# Altium footprint library LC-TO-263-5.PcbLib: 2 footprints
Each footprint in its own frame and in the unit in brackets; x right, y up, seen from the top. Pads: shape width x height; smd on the part's side, far side on the other; paste and mask are expansions set on the pad; w line width, h text height; cw(c..) or ccw(c..) is an arc to the next point about the centre after c.
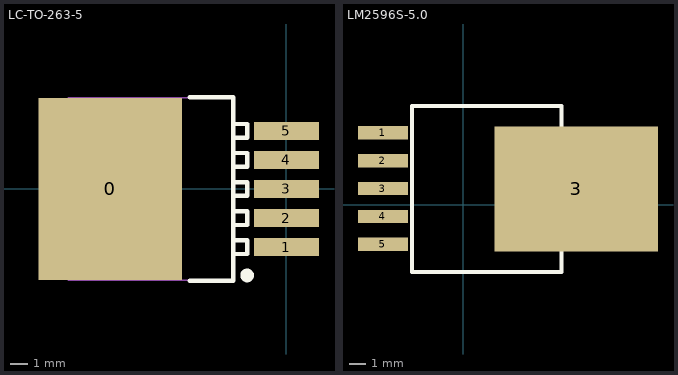
[diagram p0: the footprints below, top view; thin cyan lines are the x and y axes]

## LC-TO-263-5 [mm]
pads (6):
  rect 8.4x10.65 smd: 0(-10.3,0)
  rect 3.8x1.05 smd: 1(0,-3.4) 2(0,-1.7) 3(0,0) 4(0,1.7) 5(0,3.4)
Top Overlay:
  circle w0.4: c-2.3,-5.05 r0.2
  lines w0.254: -5.65,-5.35 -3.1,-5.35 -3.1,5.35 -5.65,5.35 ; -3.1,-3 -2.3,-3 -2.3,-3.8 -3,-3.8 ; -3.1,-1.3 -2.3,-1.3 -2.3,-2.1 -3,-2.1 ; -3.1,0.4 -2.3,0.4 -2.3,-0.4 -3,-0.4 ; -3.1,2.1 -2.3,2.1 -2.3,1.3 -3,1.3 ; -3.1,3.8 -2.3,3.8 -2.3,3 -3,3
Mechanical 13:
  lines w0.1: -12.75,-5.325 -12.75,5.325 -3.1,5.325 -3.1,-5.325 -12.75,-5.325

## LM2596S-5.0 [mil]
pads (6):
  rect 120x32 smd: 1(-192.91,173.23) 2(-192.91,106.23) 3(-192.91,39.23) 4(-192.91,-27.77) 5(-192.91,-94.77)
  rect 393.7x300 smd: 3(272.09,38.23)
Top Overlay:
  lines w10: -122.91,-161.77 -122.91,238.23 237.09,238.23 237.09,-161.77 -122.91,-161.77